# EAGLE library part FT231X (library automaton)
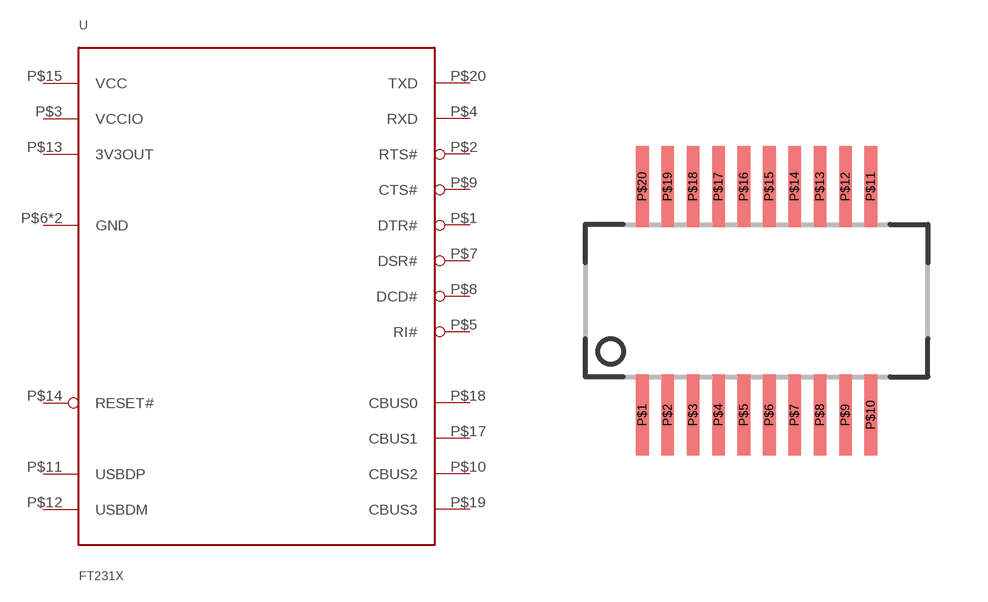
[diagram p1: symbol with the pads of FTDI_SSOP20; footprint FTDI_SSOP20]

Designator prefix -

## FT231XSSOP  [FTDI_SSOP20]
P$1  DTR#
P$2  RTS#
P$3  VCCIO  pwr
P$4  RXD  in
P$5  RI#
P$6  GND  pwr
P$7  DSR#
P$8  DCD#
P$9  CTS#
P$10  CBUS2
P$11  USBDP
P$12  USBDM
P$13  3V3OUT  pwr
P$14  RESET#
P$15  VCC  pwr
P$16  GND  pwr
P$17  CBUS1
P$18  CBUS0
P$19  CBUS3
P$20  TXD  out

## Footprint FTDI_SSOP20 (pad centres in mm)
smd 0.318 x 2.032: P$1 -2.857,-2.857; P$2 -2.223,-2.857; P$3 -1.587,-2.857; P$4 -0.953,-2.857; P$5 -0.318,-2.857; P$6 0.318,-2.857; P$7 0.953,-2.857; P$8 1.587,-2.857; P$9 2.223,-2.857; P$10 2.857,-2.857; P$11 2.857,2.857; P$12 2.223,2.857; P$13 1.587,2.857; P$14 0.953,2.857; P$15 0.318,2.857; P$16 -0.318,2.857; P$17 -0.953,2.857; P$18 -1.587,2.857; P$19 -2.223,2.857; P$20 -2.857,2.857